# Altium footprint library EEW_Client.PcbLib: 10 footprints
Each footprint in its own frame and in the unit in brackets; x right, y up, seen from the top. Pads: shape width x height; smd on the part's side, far side on the other; paste and mask are expansions set on the pad; w line width, h text height; cw(c..) or ccw(c..) is an arc to the next point about the centre after c.
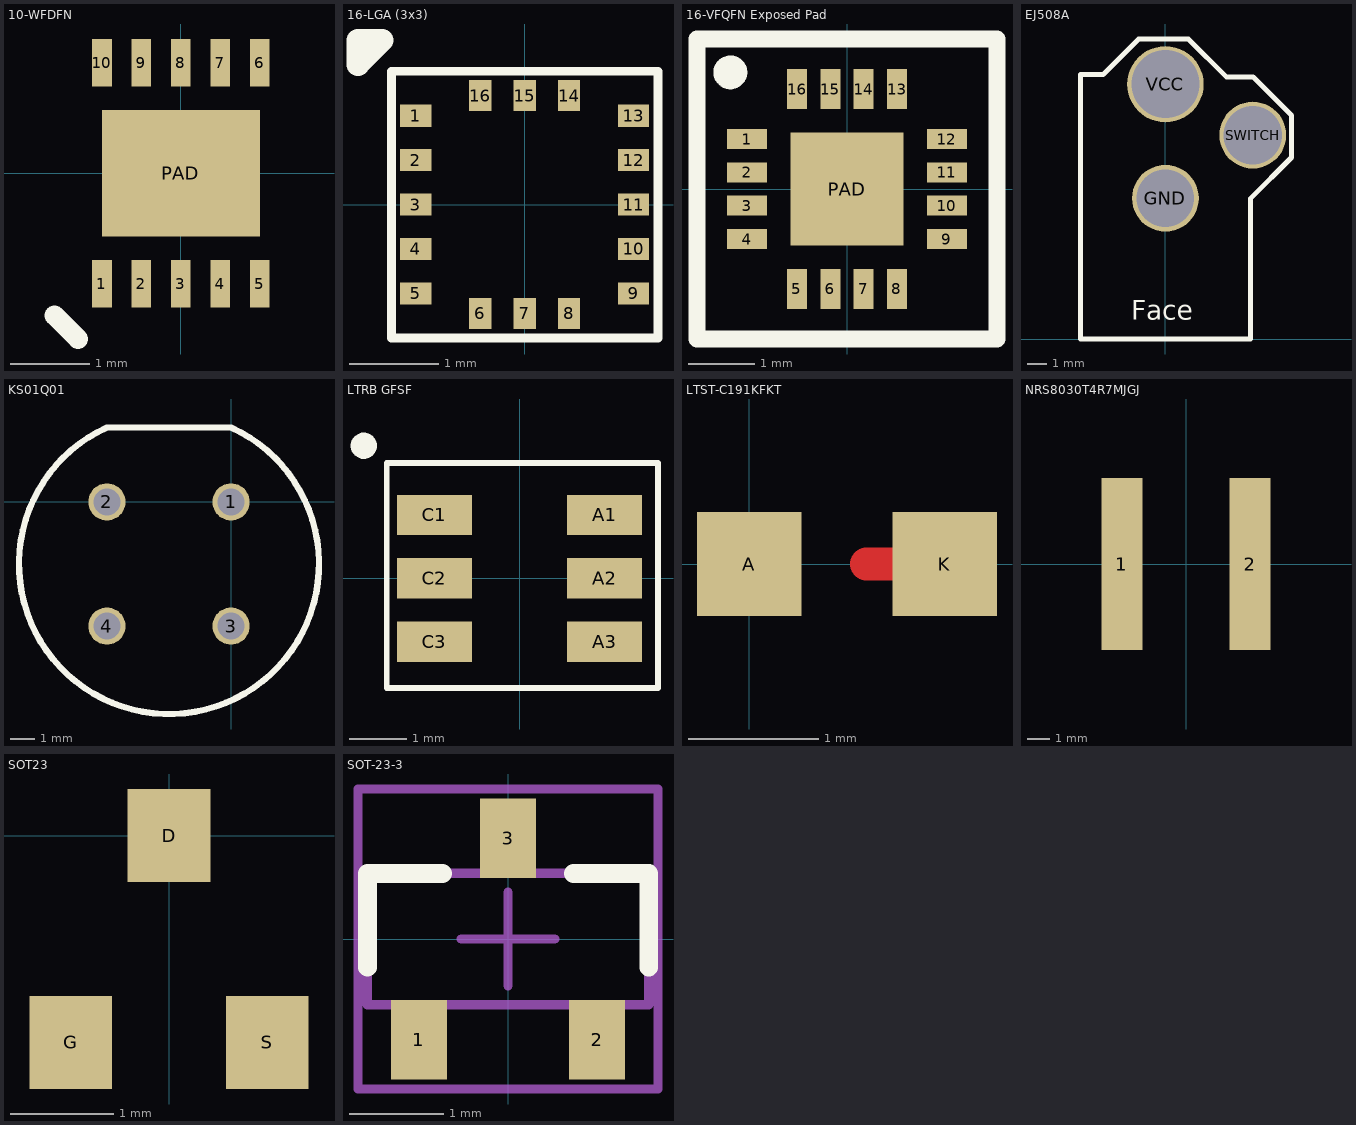
[diagram p0: the footprints below, top view; thin cyan lines are the x and y axes]

## 10-WFDFN [mm] "LM48310 Amplifier"
pads (11):
  rect 0.25x0.6 smd mask+0: 1(-1,-1.4) 2(-0.5,-1.4) 3(0,-1.4) 4(0.5,-1.4) 5(1,-1.4) 6(1,1.4) 7(0.5,1.4) 8(0,1.4) 9(-0.5,1.4) 10(-1,1.4)
  rect 2x1.6 smd mask+0: PAD(0,0)
Top Overlay:
  lines w0.254: -1.6,-1.8 -1.3,-2.1

## 16-LGA (3x3) [mm] "KX023 Accelerometer"
height 1
pads (16):
  rect 0.35x0.25 smd mask+0: 1(-1.225,1) 2(-1.225,0.5) 3(-1.225,0) 4(-1.225,-0.5) 5(-1.225,-1) 9(1.225,-1) 10(1.225,-0.5) 11(1.225,0) 12(1.225,0.5) 13(1.225,1)
  rect 0.25x0.35 smd mask+0: 6(-0.5,-1.225) 7(0,-1.225) 8(0.5,-1.225) 14(0.5,1.225) 15(0,1.225) 16(-0.5,1.225)
Top Overlay:
  lines w0.1: -1.5,-1.5 1.5,-1.5 1.5,1.5 -1.5,1.5 -1.5,-1.5
  lines w0.254: -1.875,1.575 -1.875,1.85 -1.6,1.85 -1.875,1.575

## 16-VFQFN Exposed Pad [mm] "16-VFQFN Exposed Pad"
height 1.016
pads (17):
  rect 0.6x0.3 smd mask+0: 1(-1.5,0.75) 2(-1.5,0.25) 3(-1.5,-0.25) 4(-1.5,-0.75) 9(1.5,-0.75) 10(1.5,-0.25) 11(1.5,0.25) 12(1.5,0.75)
  rect 0.3x0.6 smd mask+0: 5(-0.75,-1.5) 6(-0.25,-1.5) 7(0.25,-1.5) 8(0.75,-1.5) 13(0.75,1.5) 14(0.25,1.5) 15(-0.25,1.5) 16(-0.75,1.5)
  rect 1.7x1.7 smd mask+0: PAD(0,0)
Top Overlay:
  circle w0.254: c-1.75,1.75 r0.127
  lines w0.254: -2.25,-2.25 2.25,-2.25 2.25,2.25 -2.25,2.25 -2.25,-2.25

## EJ508A [mm]
height 10.922
pads (3):
  round 3.5 hole 3: GND(0,7.366)
  round 3.5 hole 3.05: SWITCH(4.572,10.668)
  round 4 hole 3.56: VCC(0,13.335)
Top Overlay:
  lines w0.254: -4.445,0 -4.445,13.843 -3.257,13.843 -1.4,15.7 1.2,15.7 3.184,13.716 4.584,13.716 6.6,11.7 6.6,9.5 4.445,7.345 4.445,0 -4.445,0
  text "Face" at -1.778,1.016 h1.02

## KS01Q01 [mm] "Normally Open Switch"
height 7.35
pads (4):
  round 1.5 hole 1.1 mask+0.04: 1(0,0) 2(-5,0) 3(0,-5) 4(-5,-5)
Top Overlay:
  lines w0.25: -5,3 0,3
  lines w0.254: -5,3 ccw(c-2.5,-2.5) 0,3

## LTRB GFSF [mm] "3 color LED"
height 2
pads (6):
  rect 1.3x0.7 smd mask+0.04: A1(1.475,1.1) A2(1.475,0) A3(1.475,-1.1) C1(-1.475,1.1) C2(-1.475,0) C3(-1.475,-1.1)
Top Overlay:
  circle w0.254: c-2.7,2.3 r0.1
  lines w0.1: -2.3,-1.9 2.4,-1.9 2.4,2 -2.3,2 -2.3,-1.9

## LTST-C191KFKT [mm] "Orange LED"
pads (2):
  rect 0.8x0.8 smd: A(0,0) K(1.5,0)
Top Layer:
  lines w0.254: 0.9,0 1.5,0

## NRS8030T4R7MJGJ [mm] "4.7 uH 3.6A inductor"
height 3
pads (2):
  rect 1.8x7.5 smd: 1(-2.8,0) 2(2.8,0)

## SOT23 [mm] "For DMG3420U"
height 1.016
pads (3):
  rect 0.8x0.9 smd: D(0,0) G(-0.95,-2) S(0.95,-2)

## SOT-23-3 [mm]
pads (3):
  rect 0.6x0.85 smd: 1(-0.95,-1.075) 2(0.95,-1.075) 3(0,1.075)
Top Overlay:
  lines w0.2: -1.5,-0.3 -1.5,0.7 -0.7,0.7 ; 0.7,0.7 1.5,0.7 1.5,-0.3
Mechanical 13:
  lines w0.1: -1.5,-0.7 -1.5,0.7 1.5,0.7 1.5,-0.7 -1.5,-0.7
Mechanical 15:
  lines w0.1: -0.5,0 0.5,0 ; 0,-0.5 0,0.5 ; -1.6,-1.6 -1.6,1.6 1.6,1.6 1.6,-1.6 -1.6,-1.6
3D body: height 1.1, standoff 0, extent -1.5,-0.7 1.5,0.7